# Altium footprint library TO-263-7.PcbLib: 1 footprints
Each footprint in its own frame and in the unit in brackets; x right, y up, seen from the top. Pads: shape width x height; smd on the part's side, far side on the other; paste and mask are expansions set on the pad; w line width, h text height; cw(c..) or ccw(c..) is an arc to the next point about the centre after c.
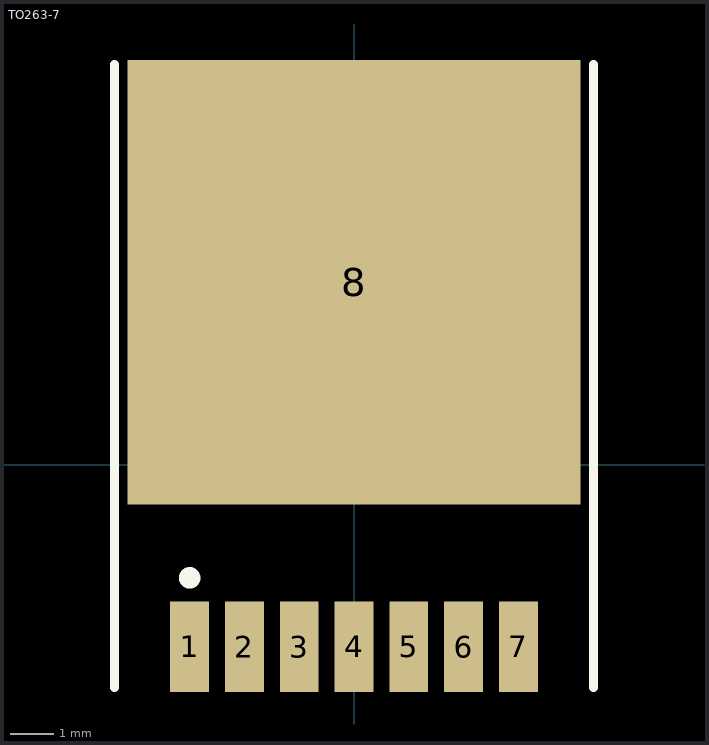
[diagram p0: the footprint, top view; thin cyan lines are the x and y axes]

## TO263-7 [mm]
pads (8):
  rect 0.9x2.1 smd: 1(-3.81,-4.225) 2(-2.54,-4.225) 3(-1.27,-4.225) 4(0,-4.225) 5(1.27,-4.225) 6(2.54,-4.225) 7(3.81,-4.225)
  rect 10.5x10.3 smd: 8(0,4.225)
Top Overlay:
  circle w0.25: c-3.81,-2.625 r0.125
  lines w0.2: -5.55,-5.175 -5.55,9.275 ; 5.55,-5.175 5.55,9.275